# Altium schematic symbol library DRV10970PWPR.SchLib: 1 symbol
Pins are listed as number, name and electrical type; pins without a type are passive.

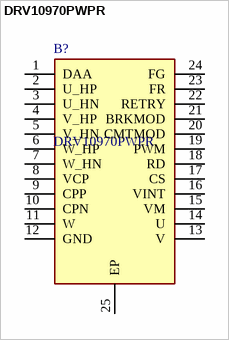
[diagram p0: symbol DRV10970PWPR]

## DRV10970PWPR
designator B?
20W, 12V 3-phase sensored BLDC motor driver with single/3halls supported; Manufacturer_Name: Texas Instruments; Geometry.Height: 1.2mm; Mouser Part Number: 595-DRV10970PWPR; Mouser Price/Stock: https://www.mouser.co.uk/ProductDetail/Texas-Instruments/DRV10970PWPR?qs=F66ExNIg9rr34PKt6FmsTg%3D%3D; Manufacturer_Part_Number: DRV10970PWPR; Datasheet Link: http://www.ti.com/lit/gpn/drv10970
footprint SOP65P640X120-25N
pins: 1 DAA, 2 U_HP, 3 U_HN, 4 V_HP, 5 V_HN, 6 W_HP, 7 W_HN, 8 VCP, 9 CPP, 10 CPN, 11 W, 12 GND, 13 V, 14 U, 15 VM, 16 VINT, 17 CS, 18 RD, 19 PWM, 20 CMTMOD, 21 BRKMOD, 22 RETRY, 23 FR, 24 FG, 25 EP